# Altium footprint library PcbLib.PcbLib: 4 footprints
Each footprint in its own frame and in the unit in brackets; x right, y up, seen from the top. Pads: shape width x height; smd on the part's side, far side on the other; paste and mask are expansions set on the pad; w line width, h text height; cw(c..) or ccw(c..) is an arc to the next point about the centre after c.
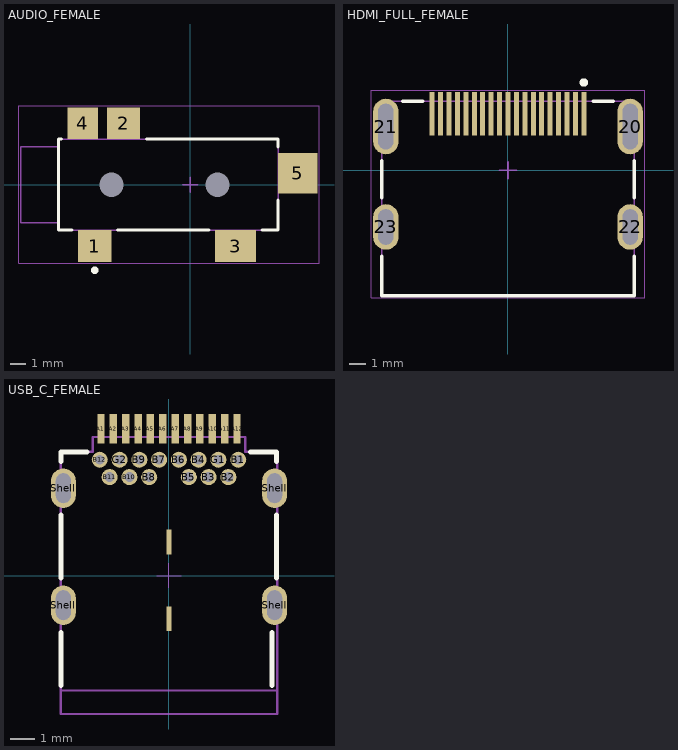
[diagram p0: the footprints below, top view; thin cyan lines are the x and y axes]

## AUDIO_FEMALE [mm]
pads (7):
  rect 2.2x2.1 smd: 1(-6.3,-4.05) 2(-4.4,4.05)
  rect 2.7x2.1 smd: 3(3,-4.05)
  rect 2x2.1 smd: 4(-7.1,4.05)
  rect 2.6x2.7 smd: 5(7.1,0.75)
  rect 0x0 hole 1.6 unplated: MH(-5.2,0) MH(1.8,0)
Top Overlay:
  circle w0.25: c-6.3,-5.65 r0.125
  lines w0.2: -8.5,3 -8.7,3 -8.7,-3 -7.8,-3 ; -4.8,-3 1.25,-3 ; -2.9,3 5.8,3 5.8,2.5 ; 4.75,-3 5.8,-3 5.8,-1
Mechanical 13:
  lines w0.1: -8.7,-2.499 -11.2,-2.499 -11.2,2.499 -8.7,2.499 ; -8.7,-3 -8.7,3 5.8,3 5.8,-3 -8.7,-3
Mechanical 15:
  lines w0.05: -11.3,-5.2 -11.3,5.2 8.5,5.2 8.5,-5.2 -11.3,-5.2
  lines w0.1: -0.5,0 0.5,0 ; 0,-0.5 0,0.5
3D body: height 0, standoff -0.8, extent -5.95,-0.75 -4.45,0.75
3D body: height 5, standoff 0, extent -11.2,-2.499 -8.7,2.499
3D body: height 5, standoff 0, extent -8.7,-3 5.8,3
3D body: height 0, standoff -0.8, extent 1.05,-0.75 2.55,0.75
3D body: height 4.3, standoff 0.7, extent -11.201,-1.8 -8.7,1.8

## HDMI_FULL_FEMALE [mm]
pads (23):
  rect 0.3x2.6 smd: 1(4.5,3.36) 2(4,3.36) 3(3.5,3.36) 4(3,3.36) 5(2.5,3.36) 6(2,3.36) 7(1.5,3.36) 8(1,3.36) 9(0.5,3.36) 10(0,3.36) 11(-0.5,3.36) 12(-1,3.36) 13(-1.5,3.36) 14(-2,3.36) 15(-2.5,3.36) 16(-3,3.36) 17(-3.5,3.36) 18(-4,3.36) 19(-4.5,3.36)
  oval 1.5x3.3 hole 0.9 slot 2.7 at 90 deg: 20(7.25,2.6) 21(-7.25,2.6)
  oval 1.5x2.7 hole 0.9 slot 2.1 at 90 deg: 22(7.25,-3.36) 23(-7.25,-3.36)
Top Overlay:
  circle w0.25: c4.5,5.21 r0.125
  lines w0.2: -7.5,-5.09 -7.5,-7.45 7.5,-7.45 7.5,-5.09 ; -7.5,-1.627 -7.5,0.575 ; -6.26,4.1 -5.05,4.1 ; 5.05,4.1 6.26,4.1 ; 7.5,-1.627 7.5,0.575
Mechanical 13:
  lines w0.1: -7.5,-7.45 -7.5,4.1 7.5,4.1 7.5,-7.45 -7.5,-7.45
Mechanical 15:
  lines w0.05: -8.1,-7.55 -8.1,4.76 8.1,4.76 8.1,-7.55 -8.1,-7.55
  lines w0.1: -0.5,0 0.5,0 ; 0,-0.5 0,0.5
3D body "c-1747981-1-j-3d.stp": height 6.18, standoff -2.1, extent -7.5,-7.45 7.5,4.55

## PCBComponent_1 [mm]

## USB_C_FEMALE [mm]
pads (32):
  rect 0.3x1.2 smd: A1(-2.75,5.93) A2(-2.25,5.93) A3(-1.75,5.93) A4(-1.25,5.93) A5(-0.75,5.93) A6(-0.25,5.93) A7(0.25,5.93) A8(0.75,5.93) A9(1.25,5.93) A10(1.75,5.93) A11(2.25,5.93) A12(2.75,5.93)
  round 0.65 hole 0.4: B1(2.8,4.68) B2(2.4,3.98) B3(1.6,3.98) B4(1.2,4.68) B5(0.8,3.98) B6(0.4,4.68) B7(-0.4,4.68) B8(-0.8,3.98) B9(-1.2,4.68) B10(-1.6,3.98) B11(-2.4,3.98) B12(-2.8,4.68) G1(2,4.68) G2(-2,4.68)
  oval 1x1.6 hole 0.6 slot 1.2 at 90 deg: Shell(-4.27,-1.2) Shell(-4.27,3.53) Shell(4.27,-1.2) Shell(4.27,3.53)
  rect 0.2x1 smd: Shell(0,-1.75) Shell(0,1.35)
Top Overlay:
  lines w0.2: -4.37,-4.45 -4.37,-2.3 ; -4.37,-0.1 -4.37,2.45 ; -4.37,4.6 -4.37,5 -3.32,5 ; 3.29,5 4.34,5 4.34,4.6 ; 4.17,-4.45 4.17,-2.3 ; 4.34,-0.1 4.34,2.45
Mechanical 2:
  lines w0.1: -4.37,-4.65 4.37,-4.65
  text "PCB Edge" at -1.7,-5.6 h0.61
Mechanical 13:
  lines w0.05: -2.85,5.6 -2.85,6.19 -2.65,6.19 -2.65,5.6 ; -2.35,5.6 -2.35,6.19 -2.15,6.19 -2.15,5.6 ; -1.85,5.6 -1.85,6.19 -1.65,6.19 -1.65,5.6 ; -1.35,5.6 -1.35,6.19 -1.15,6.19 -1.15,5.6 ; -0.85,5.6 -0.85,6.19 -0.65,6.19 -0.65,5.6 ; -0.35,5.6 -0.35,6.19 -0.15,6.19 -0.15,5.6 ; 0.15,5.6 0.15,6.19 0.35,6.19 0.35,5.6 ; 0.65,5.6 0.65,6.19 0.85,6.19 0.85,5.6 ; 1.15,5.6 1.15,6.19 1.35,6.19 1.35,5.6 ; 1.65,5.6 1.65,6.19 1.85,6.19 1.85,5.6 ; 2.15,5.6 2.15,6.19 2.35,6.19 2.35,5.6 ; 2.65,5.6 2.65,6.19 2.85,6.19 2.85,5.6
  lines w0.1: 4.34,-5.6 -4.37,-5.6 -4.37,5 -3.08,5 -3.08,5.6 3.08,5.6 3.08,5 4.37,5 4.37,-5.6
Mechanical 15:
  lines w0.05: -0.5,0 0.5,0 ; 0,-0.5 0,0.5
3D body "632723300011.stp": height 3.05, standoff -1.81, extent -4.37,-5.6 4.37,6.194